# Altium integrated library Xilinx XC5200.IntLib: 211 symbols (part 14 of 19)
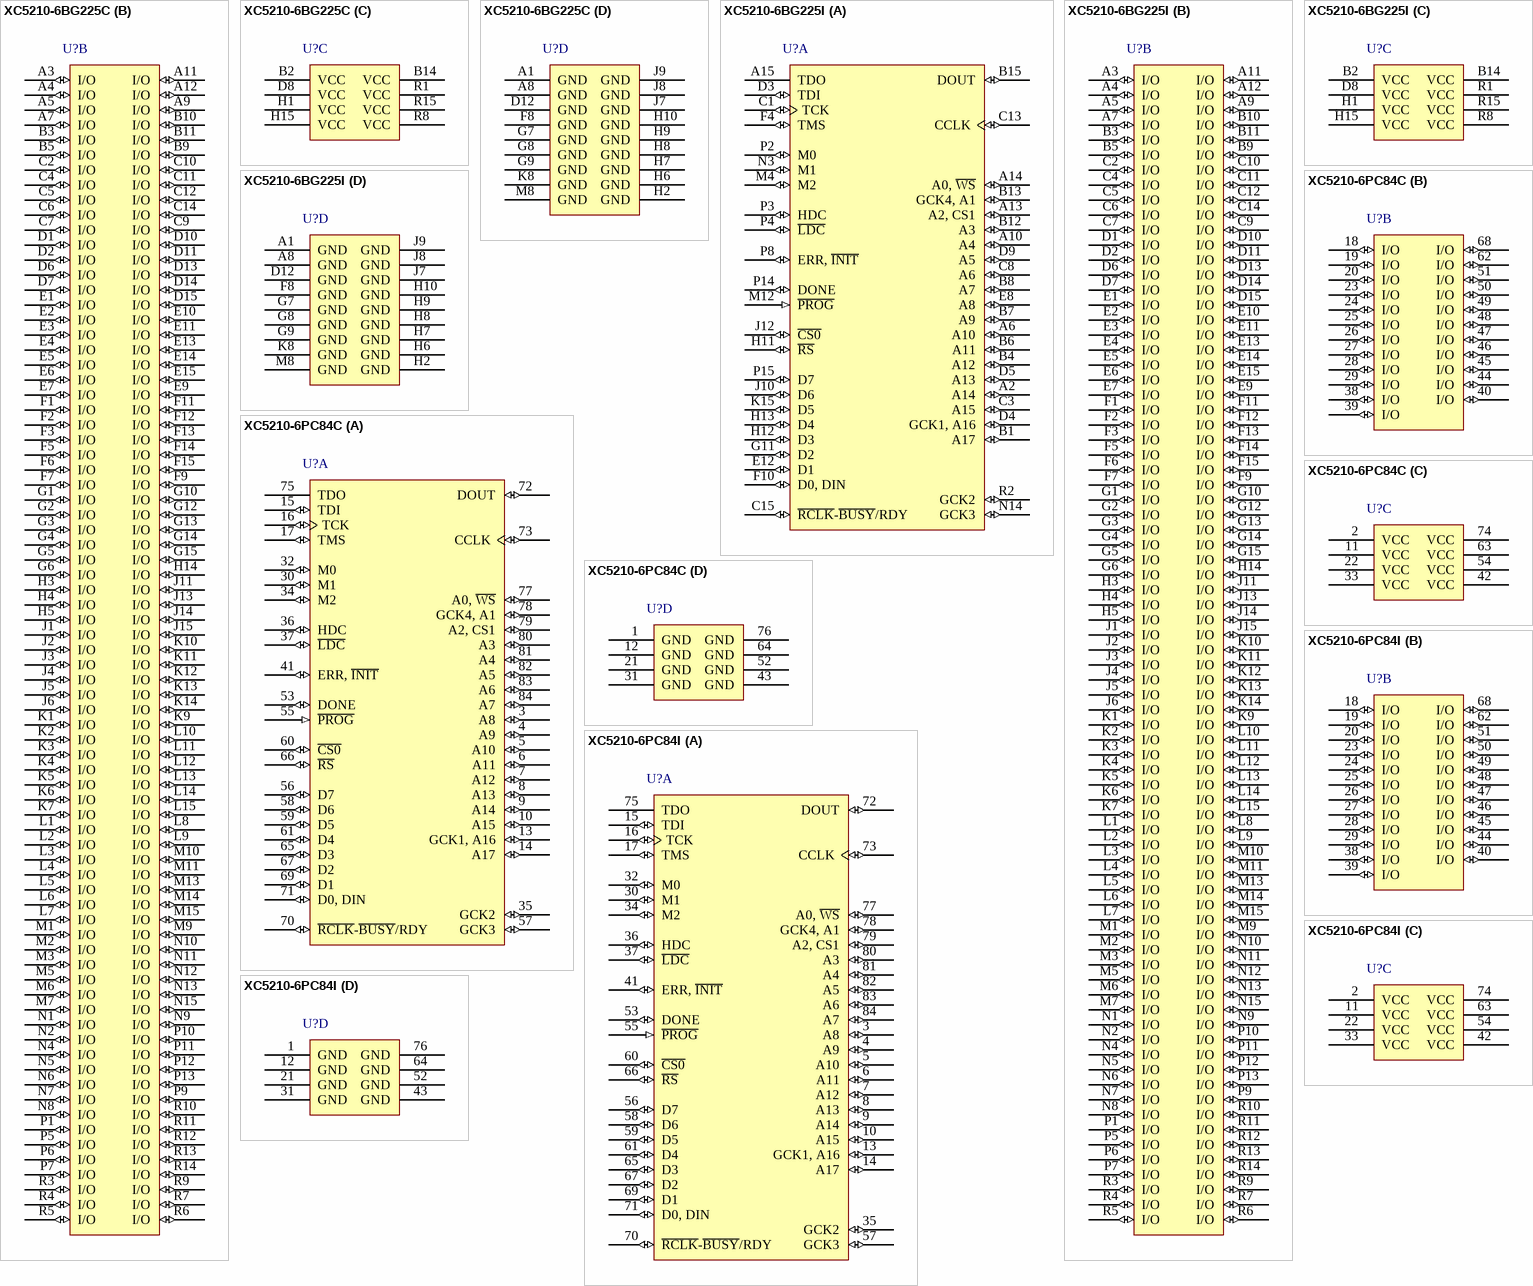
[diagram p76: symbols XC5210-6BG225C to XC5210-6PC84I]

## XC5210-6BG225I
designator U?
XC5200 Series FPGA, 196 User I/Os, 225-Ball BGA, Industrial Grade; Published: 17-Nov-2009; DatasheetVersion: ver5.2, Nov-1998; PackageVersion: ver1.1, Apr-2001; PackageReference: BG225; Publisher: Altium Limited; PackageDescription: 225-Ball Plastic Ball Grid Array (BG225); ComponentLink1Description: XC5200 Datasheet; ComponentLink1URL: http://www.xilinx.com/support/documentation/data_sheets/5200.pdf; ComponentLink2Description: Pinout Specification; ComponentLink2URL: http://www.xilinx.com/support/documentation/data_sheets/5200.pdf; ComponentLink3Description: BG225 Package Drawing; ComponentLink3URL: http://www.xilinx.com/support/documentation/package_specs/bg225.pdf; ComponentLink4Description: XC5200 Documents; ComponentLink4URL: http://www.xilinx.com/support/documentation/xc5200.htm; ComponentLink5Description: Xilinx.com Home; ComponentLink5URL: http://www.xilinx.com
footprint BG225 (BGA, 225-Leads, Body 27x27mm, Pitch 1.5mm)
signal-integrity model XC5210_BG225 (XC5200)
part A pins: A2 A14 (io) "I/O (A14)", A6 A10 (io) "I/O (A10)", A10 A4 (io) "I/O (A4)", A13 A2, CS1 (io) "I/O (CS1, A2)", A14 A0, ~{WS} (io) "I/O (A0, WS)", A15 TDO (hiz) "I/O (TDO)", B1 A17 (io) "I/O (A17)", B4 A12 (io) "I/O (A12)", B6 A11 (io) "I/O (A11)", B7 A9 (io) "I/O (A9)", B8 A7 (io) "I/O (A7)", B12 A3 (io) "I/O (A3)", B13 GCK4, A1 (io) "GCK4 (A1, I/O)", B15 DOUT (io) "I/O (DOUT)", C1 TCK (io) "I/O (TCK)", C3 A15 (io) "I/O (A15)", C8 A6 (io) "I/O (A6)", C13 CCLK (io), C15 ~{RCLK}-~{BUSY}/RDY (io) "I/O (RCLK-BUSY/RDY)", D3 TDI (io) "I/O (TDI)", D4 GCK1, A16 (io) "GCK1 (A16, I/O)", D5 A13 (io) "I/O (A13)", D9 A5 (io) "I/O (A5)", E8 A8 (io) "I/O (A8)", E12 D1 (io) "I/O (D1)", F4 TMS (io) "I/O (TMS)", F10 D0, DIN (io) "I/O (D0, DIN)", G11 D2 (io) "I/O (D2)", H11 ~{RS} (io) "I/O (RS)", H12 D3 (io) "I/O (D3)", H13 D4 (io) "I/O (D4)", J10 D6 (io) "I/O (D6)", J12 ~{CS0} (io) "I/O (CS0)", K15 D5 (io) "I/O (D5)", M4 M2 (io) "M2 (I/O)", M12 ~{PROG} (in), N3 M1 (io) "M1 (I/O)", N14 GCK3 (io) "GCK3 (I/O)", P2 M0 (io) "M0 (I/O)", P3 HDC (io) "I/O (HDC)", P4 ~{LDC} (io) "I/O (LDC)", P8 ERR, ~{INIT} (io) "I/O (ERR, INIT)", P14 DONE (io), P15 D7 (io) "I/O (D7)", R2 GCK2 (io) "GCK2 (I/O)"
part B pins: A3 I/O (io), A4 I/O (io), A5 I/O (io), A7 I/O (io), A9 I/O (io), A11 I/O (io), A12 I/O (io), B3 I/O (io), B5 I/O (io), B9 I/O (io), B10 I/O (io), B11 I/O (io), C2 I/O (io), C4 I/O (io), C5 I/O (io), C6 I/O (io), C7 I/O (io), C9 I/O (io), C10 I/O (io), C11 I/O (io), C12 I/O (io), C14 I/O (io), D1 I/O (io), D2 I/O (io), D6 I/O (io), D7 I/O (io), D10 I/O (io), D11 I/O (io), D13 I/O (io), D14 I/O (io), D15 I/O (io), E1 I/O (io), E2 I/O (io), E3 I/O (io), E4 I/O (io), E5 I/O (io), E6 I/O (io), E7 I/O (io), E9 I/O (io), E10 I/O (io), E11 I/O (io), E13 I/O (io), E14 I/O (io), E15 I/O (io), F1 I/O (io), F2 I/O (io), F3 I/O (io), F5 I/O (io), F6 I/O (io), F7 I/O (io), F9 I/O (io), F11 I/O (io), F12 I/O (io), F13 I/O (io), F14 I/O (io), F15 I/O (io), G1 I/O (io), G2 I/O (io), G3 I/O (io), G4 I/O (io), G5 I/O (io), G6 I/O (io), G10 I/O (io), G12 I/O (io), G13 I/O (io), G14 I/O (io), G15 I/O (io), H3 I/O (io), H4 I/O (io), H5 I/O (io), H14 I/O (io), J1 I/O (io), J2 I/O (io), J3 I/O (io), J4 I/O (io), J5 I/O (io), J6 I/O (io), J11 I/O (io), J13 I/O (io), J14 I/O (io), J15 I/O (io), K1 I/O (io), K2 I/O (io), K3 I/O (io), K4 I/O (io), K5 I/O (io), K6 I/O (io), K7 I/O (io), K9 I/O (io), K10 I/O (io), K11 I/O (io), K12 I/O (io), K13 I/O (io), K14 I/O (io), L1 I/O (io), L2 I/O (io), L3 I/O (io), L4 I/O (io), L5 I/O (io), L6 I/O (io), L7 I/O (io), L8 I/O (io), L9 I/O (io), L10 I/O (io), L11 I/O (io), L12 I/O (io), L13 I/O (io), L14 I/O (io), L15 I/O (io), M1 I/O (io), M2 I/O (io), M3 I/O (io), M5 I/O (io), M6 I/O (io), M7 I/O (io), M9 I/O (io), M10 I/O (io), M11 I/O (io), M13 I/O (io), M14 I/O (io), M15 I/O (io), N1 I/O (io), N2 I/O (io), N4 I/O (io), N5 I/O (io), N6 I/O (io), N7 I/O (io), N8 I/O (io), N9 I/O (io), N10 I/O (io), N11 I/O (io), N12 I/O (io), N13 I/O (io), N15 I/O (io), P1 I/O (io), P5 I/O (io), P6 I/O (io), P7 I/O (io), P9 I/O (io), P10 I/O (io), P11 I/O (io), P12 I/O (io), P13 I/O (io), R3 I/O (io), R4 I/O (io), R5 I/O (io), R6 I/O (io), R7 I/O (io), R9 I/O (io), R10 I/O (io), R11 I/O (io), R12 I/O (io), R13 I/O (io), R14 I/O (io)
part C pins: B2 VCC (power) "Internally bonded to ground plane", B14 VCC (power) "Internally bonded to ground plane", D8 VCC (power) "Internally bonded to ground plane", H1 VCC (power) "Internally bonded to ground plane", H15 VCC (power) "Internally bonded to ground plane", R1 VCC (power) "Internally bonded to ground plane", R8 VCC (power) "Internally bonded to ground plane", R15 VCC (power) "Internally bonded to ground plane"
part D pins: A1 GND (power) "Internally bonded to ground plane", A8 GND (power) "Internally bonded to ground plane", D12 GND (power) "Internally bonded to ground plane", F8 GND (power) "Internally bonded to ground plane", G7 GND (power) "Internally bonded to ground plane", G8 GND (power) "Internally bonded to ground plane", G9 GND (power) "Internally bonded to ground plane", H2 GND (power) "Internally bonded to ground plane", H6 GND (power) "Internally bonded to ground plane", H7 GND (power) "Internally bonded to ground plane", H8 GND (power) "Internally bonded to ground plane", H9 GND (power) "Internally bonded to ground plane", H10 GND (power) "Internally bonded to ground plane", J7 GND (power) "Internally bonded to ground plane", J8 GND (power) "Internally bonded to ground plane", J9 GND (power) "Internally bonded to ground plane", K8 GND (power) "Internally bonded to ground plane", M8 GND (power) "Internally bonded to ground plane"

## XC5210-6PC84C
designator U?
XC5200 Series FPGA, 65 User I/Os, 84-Pin PLCC, Commercial Grade; Published: 17-Nov-2009; DatasheetVersion: ver5.2, Nov-1998; PackageVersion: ver1.2, Jun-2004; PackageReference: PC84; Publisher: Altium Limited; PackageDescription: 84-Pin Plastic Leaded Chip Carrier (PC84); Code_JEDEC: MS-047; Code_IPC: PLCC-84; ComponentLink1Description: XC5200 Datasheet; ComponentLink1URL: http://www.xilinx.com/support/documentation/data_sheets/5200.pdf; ComponentLink2Description: Pinout Specification; ComponentLink2URL: http://www.xilinx.com/support/documentation/data_sheets/5200.pdf; ComponentLink3Description: Discontinuation Notice; ComponentLink3URL: http://www.xilinx.com/support/documentation/customer_notices/xcn09001.pdf; ComponentLink4Description: PC84 Package Drawing; ComponentLink4URL: http://www.xilinx.com/support/documentation/package_specs/pc84.pdf; ComponentLink5Description: XC5200 Documents; ComponentLink5URL: http://www.xilinx.com/support/documentation/xc5200.htm; ComponentLink6Description: Xilinx.com Home; ComponentLink6URL: http://www.xilinx.com
footprint PC84_N (Leaded Chip Carrier, 84-Leads, Body 29.3x29.3mm, Pitch 1.27mm, IPC Medium Density)
footprint PC84_L (Leaded Chip Carrier, 84-Leads, Body 29.3x29.3mm, Pitch 1.27mm, IPC High Density)
footprint PC84_M (Leaded Chip Carrier, 84-Leads, Body 29.3x29.3mm, Pitch 1.27mm, IPC Low Density)
signal-integrity model XC5210_PC84 (XC5200)
part A pins: 3 A8 (io) "I/O (A8)", 4 A9 (io) "I/O (A9)", 5 A10 (io) "I/O (A10)", 6 A11 (io) "I/O (A11)", 7 A12 (io) "I/O (A12)", 8 A13 (io) "I/O (A13)", 9 A14 (io) "I/O (A14)", 10 A15 (io) "I/O (A15)", 13 GCK1, A16 (io) "GCK1 (A16, I/O)", 14 A17 (io) "I/O (A17)", 15 TDI (io) "I/O (TDI)", 16 TCK (io) "I/O (TCK)", 17 TMS (io) "I/O (TMS)", 30 M1 (io) "M1 (I/O)", 32 M0 (io) "M0 (I/O)", 34 M2 (io) "M2 (I/O)", 35 GCK2 (io) "GCK2 (I/O)", 36 HDC (io) "I/O (HDC)", 37 ~{LDC} (io) "I/O (LDC)", 41 ERR, ~{INIT} (io) "I/O (ERR, INIT)", 53 DONE (io), 55 ~{PROG} (in), 56 D7 (io) "I/O (D7)", 57 GCK3 (io) "GCK3 (I/O)", 58 D6 (io) "I/O (D6)", 59 D5 (io) "I/O (D5)", 60 ~{CS0} (io) "I/O (CS0)", 61 D4 (io) "I/O (D4)", 65 D3 (io) "I/O (D3)", 66 ~{RS} (io) "I/O (RS)", 67 D2 (io) "I/O (D2)", 69 D1 (io) "I/O (D1)", 70 ~{RCLK}-~{BUSY}/RDY (io) "I/O (RCLK-BUSY/RDY)", 71 D0, DIN (io) "I/O (D0, DIN)", 72 DOUT (io) "I/O (DOUT)", 73 CCLK (io), 75 TDO (hiz) "I/O (TDO)", 77 A0, ~{WS} (io) "I/O (A0, WS)", 78 GCK4, A1 (io) "GCK4 (A1, I/O)", 79 A2, CS1 (io) "I/O (CS1, A2)", 80 A3 (io) "I/O (A3)", 81 A4 (io) "I/O (A4)", 82 A5 (io) "I/O (A5)", 83 A6 (io) "I/O (A6)", 84 A7 (io) "I/O (A7)"
part B pins: 18 I/O (io), 19 I/O (io), 20 I/O (io), 23 I/O (io), 24 I/O (io), 25 I/O (io), 26 I/O (io), 27 I/O (io), 28 I/O (io), 29 I/O (io), 38 I/O (io), 39 I/O (io), 40 I/O (io), 44 I/O (io), 45 I/O (io), 46 I/O (io), 47 I/O (io), 48 I/O (io), 49 I/O (io), 50 I/O (io), 51 I/O (io), 62 I/O (io), 68 I/O (io)
part C pins: 2 VCC (power), 11 VCC (power), 22 VCC (power), 33 VCC (power), 42 VCC (power), 54 VCC (power), 63 VCC (power), 74 VCC (power)
part D pins: 1 GND (power), 12 GND (power), 21 GND (power), 31 GND (power), 43 GND (power), 52 GND (power), 64 GND (power), 76 GND (power)

## XC5210-6PC84I
designator U?
XC5200 Series FPGA, 65 User I/Os, 84-Pin PLCC, Industrial Grade; Published: 17-Nov-2009; DatasheetVersion: ver5.2, Nov-1998; PackageVersion: ver1.2, Jun-2004; PackageReference: PC84; Publisher: Altium Limited; PackageDescription: 84-Pin Plastic Leaded Chip Carrier (PC84); Code_JEDEC: MS-047; Code_IPC: PLCC-84; ComponentLink1Description: XC5200 Datasheet; ComponentLink1URL: http://www.xilinx.com/support/documentation/data_sheets/5200.pdf; ComponentLink2Description: Pinout Specification; ComponentLink2URL: http://www.xilinx.com/support/documentation/data_sheets/5200.pdf; ComponentLink3Description: Discontinuation Notice; ComponentLink3URL: http://www.xilinx.com/support/documentation/customer_notices/xcn09001.pdf; ComponentLink4Description: PC84 Package Drawing; ComponentLink4URL: http://www.xilinx.com/support/documentation/package_specs/pc84.pdf; ComponentLink5Description: XC5200 Documents; ComponentLink5URL: http://www.xilinx.com/support/documentation/xc5200.htm; ComponentLink6Description: Xilinx.com Home; ComponentLink6URL: http://www.xilinx.com
footprint PC84_N (Leaded Chip Carrier, 84-Leads, Body 29.3x29.3mm, Pitch 1.27mm, IPC Medium Density)
footprint PC84_L (Leaded Chip Carrier, 84-Leads, Body 29.3x29.3mm, Pitch 1.27mm, IPC High Density)
footprint PC84_M (Leaded Chip Carrier, 84-Leads, Body 29.3x29.3mm, Pitch 1.27mm, IPC Low Density)
signal-integrity model XC5210_PC84 (XC5200)
part A pins: 3 A8 (io) "I/O (A8)", 4 A9 (io) "I/O (A9)", 5 A10 (io) "I/O (A10)", 6 A11 (io) "I/O (A11)", 7 A12 (io) "I/O (A12)", 8 A13 (io) "I/O (A13)", 9 A14 (io) "I/O (A14)", 10 A15 (io) "I/O (A15)", 13 GCK1, A16 (io) "GCK1 (A16, I/O)", 14 A17 (io) "I/O (A17)", 15 TDI (io) "I/O (TDI)", 16 TCK (io) "I/O (TCK)", 17 TMS (io) "I/O (TMS)", 30 M1 (io) "M1 (I/O)", 32 M0 (io) "M0 (I/O)", 34 M2 (io) "M2 (I/O)", 35 GCK2 (io) "GCK2 (I/O)", 36 HDC (io) "I/O (HDC)", 37 ~{LDC} (io) "I/O (LDC)", 41 ERR, ~{INIT} (io) "I/O (ERR, INIT)", 53 DONE (io), 55 ~{PROG} (in), 56 D7 (io) "I/O (D7)", 57 GCK3 (io) "GCK3 (I/O)", 58 D6 (io) "I/O (D6)", 59 D5 (io) "I/O (D5)", 60 ~{CS0} (io) "I/O (CS0)", 61 D4 (io) "I/O (D4)", 65 D3 (io) "I/O (D3)", 66 ~{RS} (io) "I/O (RS)", 67 D2 (io) "I/O (D2)", 69 D1 (io) "I/O (D1)", 70 ~{RCLK}-~{BUSY}/RDY (io) "I/O (RCLK-BUSY/RDY)", 71 D0, DIN (io) "I/O (D0, DIN)", 72 DOUT (io) "I/O (DOUT)", 73 CCLK (io), 75 TDO (hiz) "I/O (TDO)", 77 A0, ~{WS} (io) "I/O (A0, WS)", 78 GCK4, A1 (io) "GCK4 (A1, I/O)", 79 A2, CS1 (io) "I/O (CS1, A2)", 80 A3 (io) "I/O (A3)", 81 A4 (io) "I/O (A4)", 82 A5 (io) "I/O (A5)", 83 A6 (io) "I/O (A6)", 84 A7 (io) "I/O (A7)"
part B pins: 18 I/O (io), 19 I/O (io), 20 I/O (io), 23 I/O (io), 24 I/O (io), 25 I/O (io), 26 I/O (io), 27 I/O (io), 28 I/O (io), 29 I/O (io), 38 I/O (io), 39 I/O (io), 40 I/O (io), 44 I/O (io), 45 I/O (io), 46 I/O (io), 47 I/O (io), 48 I/O (io), 49 I/O (io), 50 I/O (io), 51 I/O (io), 62 I/O (io), 68 I/O (io)
part C pins: 2 VCC (power), 11 VCC (power), 22 VCC (power), 33 VCC (power), 42 VCC (power), 54 VCC (power), 63 VCC (power), 74 VCC (power)
part D pins: 1 GND (power), 12 GND (power), 21 GND (power), 31 GND (power), 43 GND (power), 52 GND (power), 64 GND (power), 76 GND (power)

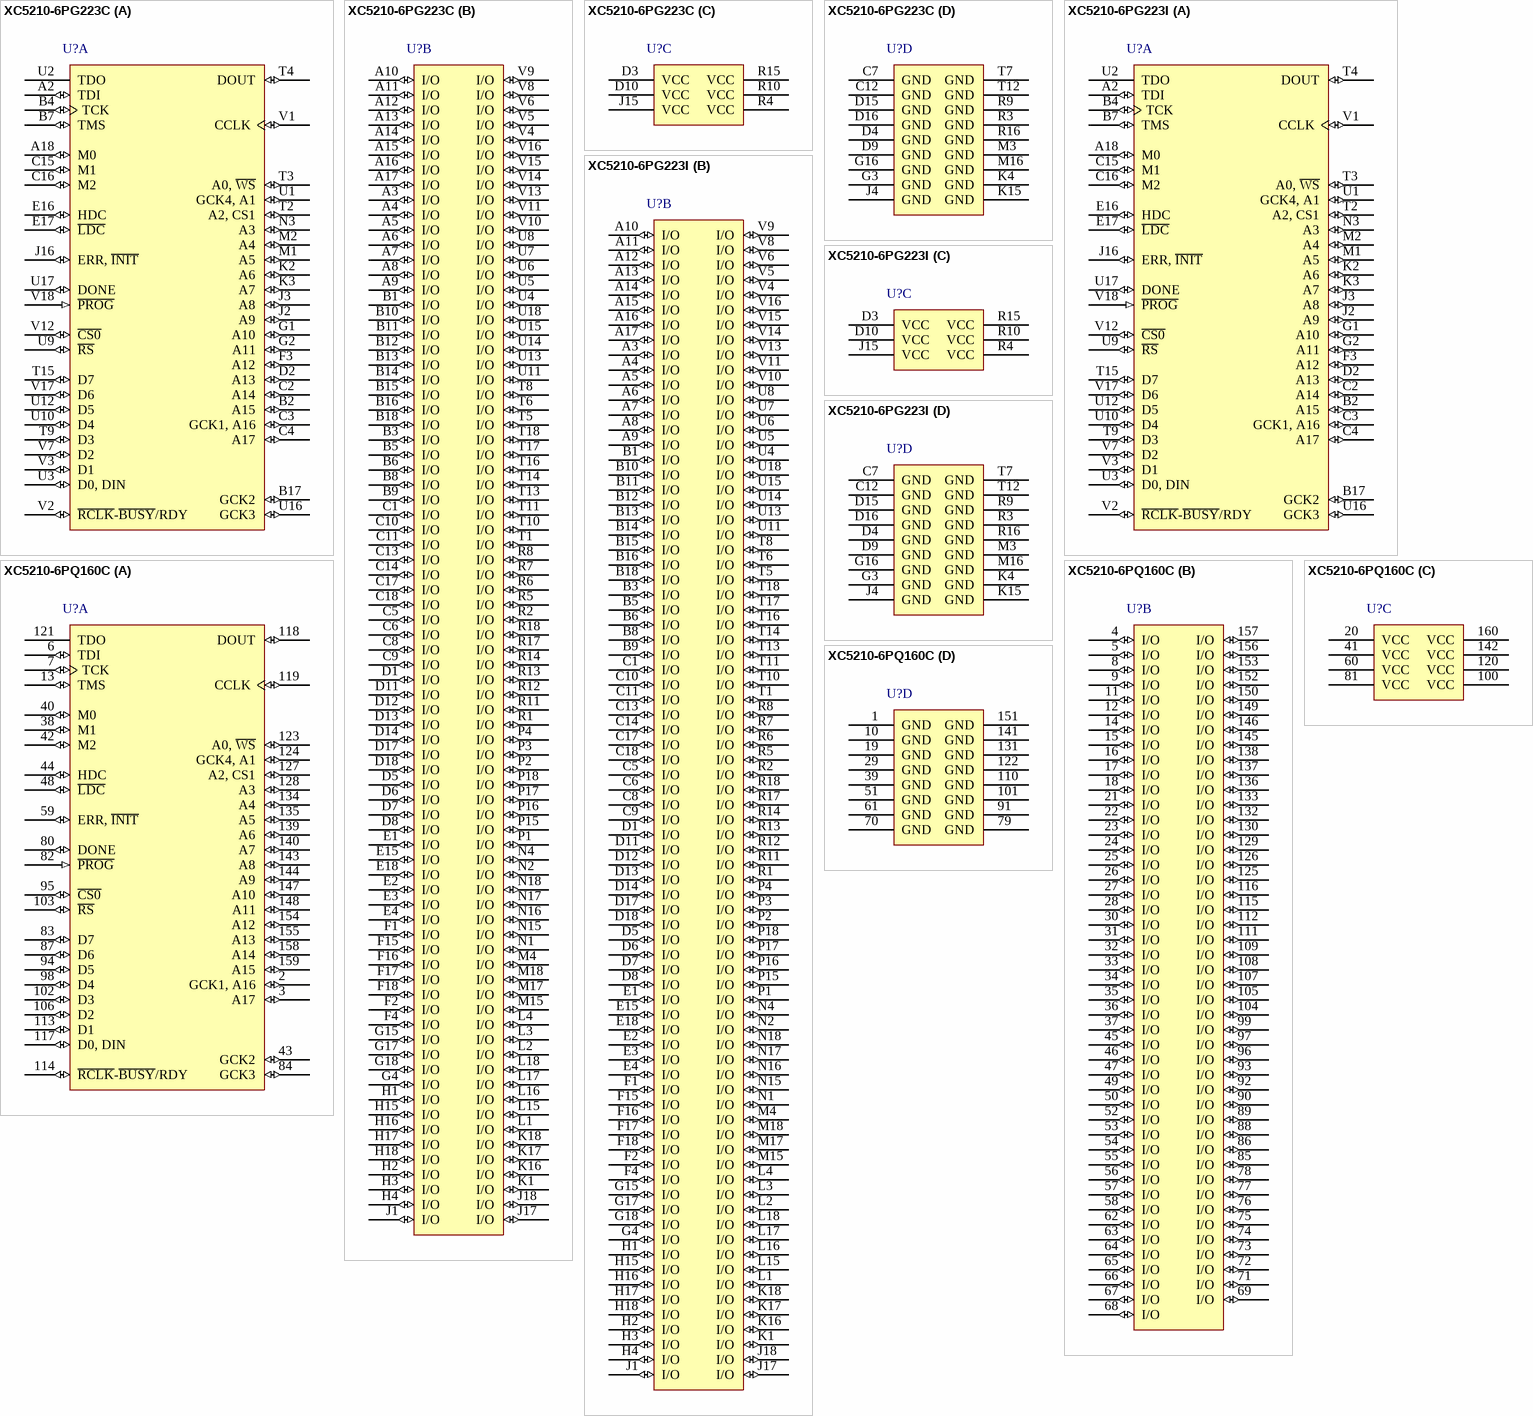
[diagram p44: symbols XC5210-6PG223C to XC5210-6PQ160C]

## XC5210-6PG223C
designator U?
XC5200 Series FPGA, 196 User I/Os, 223-Pin PGA, Commercial Grade; Published: 17-Nov-2009; DatasheetVersion: ver5.2, Nov-1998; PackageVersion: ver1.0, Jun-2000; PackageReference: PG223; Publisher: Altium Limited; PackageDescription: 223-Pin Ceramic Pin Grid Array (PG223); ComponentLink1Description: XC5200 Datasheet; ComponentLink1URL: http://www.xilinx.com/support/documentation/data_sheets/5200.pdf; ComponentLink2Description: Pinout Specification; ComponentLink2URL: http://www.xilinx.com/support/documentation/data_sheets/5200.pdf; ComponentLink3Description: PG223 Package Drawing; ComponentLink3URL: http://www.xilinx.com/support/documentation/package_specs/pg223.pdf; ComponentLink4Description: XC5200 Documents; ComponentLink4URL: http://www.xilinx.com/support/documentation/xc5200.htm; ComponentLink5Description: Xilinx.com Home; ComponentLink5URL: http://www.xilinx.com
footprint PG223 (PGA, 223-Leads, Body 47x47mm, Pitch 2.54mm)
signal-integrity model XC5210_PG223 (XC5200)
part A pins: A2 TDI (io) "I/O (TDI)", A18 M0 (io) "M0 (I/O)", B2 A15 (io) "I/O (A15)", B4 TCK (io) "I/O (TCK)", B7 TMS (io) "I/O (TMS)", B17 GCK2 (io) "GCK2 (I/O)", C2 A14 (io) "I/O (A14)", C3 GCK1, A16 (io) "GCK1 (A16, I/O)", C4 A17 (io) "I/O (A17)", C15 M1 (io) "M1 (I/O)", C16 M2 (io) "M2 (I/O)", D2 A13 (io) "I/O (A13)", E16 HDC (io) "I/O (HDC)", E17 ~{LDC} (io) "I/O (LDC)", F3 A12 (io) "I/O (A12)", G1 A10 (io) "I/O (A10)", G2 A11 (io) "I/O (A11)", J2 A9 (io) "I/O (A9)", J3 A8 (io) "I/O (A8)", J16 ERR, ~{INIT} (io) "I/O (ERR, INIT)", K2 A6 (io) "I/O (A6)", K3 A7 (io) "I/O (A7)", M1 A5 (io) "I/O (A5)", M2 A4 (io) "I/O (A4)", N3 A3 (io) "I/O (A3)", T2 A2, CS1 (io) "I/O (CS1, A2)", T3 A0, ~{WS} (io) "I/O (A0, WS)", T4 DOUT (io) "I/O (DOUT)", T9 D3 (io) "I/O (D3)", T15 D7 (io) "I/O (D7)", U1 GCK4, A1 (io) "GCK4 (A1, I/O)", U2 TDO (hiz) "I/O (TDO)", U3 D0, DIN (io) "I/O (D0, DIN)", U9 ~{RS} (io) "I/O (RS)", U10 D4 (io) "I/O (D4)", U12 D5 (io) "I/O (D5)", U16 GCK3 (io) "GCK3 (I/O)", U17 DONE (io), V1 CCLK (io), V2 ~{RCLK}-~{BUSY}/RDY (io) "I/O (RCLK-BUSY/RDY)", V3 D1 (io) "I/O (D1)", V7 D2 (io) "I/O (D2)", V12 ~{CS0} (io) "I/O (CS0)", V17 D6 (io) "I/O (D6)", V18 ~{PROG} (in)
part B pins: A3 I/O (io), A4 I/O (io), A5 I/O (io), A6 I/O (io), A7 I/O (io), A8 I/O (io), A9 I/O (io), A10 I/O (io), A11 I/O (io), A12 I/O (io), A13 I/O (io), A14 I/O (io), A15 I/O (io), A16 I/O (io), A17 I/O (io), B1 I/O (io), B3 I/O (io), B5 I/O (io), B6 I/O (io), B8 I/O (io), B9 I/O (io), B10 I/O (io), B11 I/O (io), B12 I/O (io), B13 I/O (io), B14 I/O (io), B15 I/O (io), B16 I/O (io), B18 I/O (io), C1 I/O (io), C5 I/O (io), C6 I/O (io), C8 I/O (io), C9 I/O (io), C10 I/O (io), C11 I/O (io), C13 I/O (io), C14 I/O (io), C17 I/O (io), C18 I/O (io), D1 I/O (io), D5 I/O (io), D6 I/O (io), D7 I/O (io), D8 I/O (io), D11 I/O (io), D12 I/O (io), D13 I/O (io), D14 I/O (io), D17 I/O (io), D18 I/O (io), E1 I/O (io), E2 I/O (io), E3 I/O (io), E4 I/O (io), E15 I/O (io), E18 I/O (io), F1 I/O (io), F2 I/O (io), F4 I/O (io), F15 I/O (io), F16 I/O (io), F17 I/O (io), F18 I/O (io), G4 I/O (io), G15 I/O (io), G17 I/O (io), G18 I/O (io), H1 I/O (io), H2 I/O (io), H3 I/O (io), H4 I/O (io), H15 I/O (io), H16 I/O (io), H17 I/O (io), H18 I/O (io), J1 I/O (io), J17 I/O (io), J18 I/O (io), K1 I/O (io), K16 I/O (io), K17 I/O (io), K18 I/O (io), L1 I/O (io), L2 I/O (io), L3 I/O (io), L4 I/O (io), L15 I/O (io), L16 I/O (io), L17 I/O (io), L18 I/O (io), M4 I/O (io), M15 I/O (io), M17 I/O (io), M18 I/O (io), N1 I/O (io), N2 I/O (io), N4 I/O (io), N15 I/O (io), N16 I/O (io), N17 I/O (io), N18 I/O (io), P1 I/O (io), P2 I/O (io), P3 I/O (io), P4 I/O (io), P15 I/O (io), P16 I/O (io), P17 I/O (io), P18 I/O (io), R1 I/O (io), R2 I/O (io), R5 I/O (io), R6 I/O (io), R7 I/O (io), R8 I/O (io), R11 I/O (io), R12 I/O (io), R13 I/O (io), R14 I/O (io), R17 I/O (io), R18 I/O (io), T1 I/O (io), T5 I/O (io), T6 I/O (io), T8 I/O (io), T10 I/O (io), T11 I/O (io), T13 I/O (io), T14 I/O (io), T16 I/O (io), T17 I/O (io), T18 I/O (io), U4 I/O (io), U5 I/O (io), U6 I/O (io), U7 I/O (io), U8 I/O (io), U11 I/O (io), U13 I/O (io), U14 I/O (io), U15 I/O (io), U18 I/O (io), V4 I/O (io), V5 I/O (io), V6 I/O (io), V8 I/O (io), V9 I/O (io), V10 I/O (io), V11 I/O (io), V13 I/O (io), V14 I/O (io), V15 I/O (io), V16 I/O (io)
part C pins: D3 VCC (power) "Internally bonded to ground plane", D10 VCC (power) "Internally bonded to ground plane", J15 VCC (power) "Internally bonded to ground plane", R4 VCC (power) "Internally bonded to ground plane", R10 VCC (power) "Internally bonded to ground plane", R15 VCC (power) "Internally bonded to ground plane"
part D pins: C7 GND (power) "Internally bonded to ground plane", C12 GND (power) "Internally bonded to ground plane", D4 GND (power) "Internally bonded to ground plane", D9 GND (power) "Internally bonded to ground plane", D15 GND (power) "Internally bonded to ground plane", D16 GND (power) "Internally bonded to ground plane", G3 GND (power) "Internally bonded to ground plane", G16 GND (power) "Internally bonded to ground plane", J4 GND (power) "Internally bonded to ground plane", K4 GND (power) "Internally bonded to ground plane", K15 GND (power) "Internally bonded to ground plane", M3 GND (power), M16 GND (power) "Internally bonded to ground plane", R3 GND (power) "Internally bonded to ground plane", R9 GND (power) "Internally bonded to ground plane", R16 GND (power) "Internally bonded to ground plane", T7 GND (power) "Internally bonded to ground plane", T12 GND (power) "Internally bonded to ground plane"

## XC5210-6PG223I
designator U?
XC5200 Series FPGA, 196 User I/Os, 223-Pin PGA, Industrial Grade; Published: 17-Nov-2009; DatasheetVersion: ver5.2, Nov-1998; PackageVersion: ver1.0, Jun-2000; PackageReference: PG223; Publisher: Altium Limited; PackageDescription: 223-Pin Ceramic Pin Grid Array (PG223); ComponentLink1Description: XC5200 Datasheet; ComponentLink1URL: http://www.xilinx.com/support/documentation/data_sheets/5200.pdf; ComponentLink2Description: Pinout Specification; ComponentLink2URL: http://www.xilinx.com/support/documentation/data_sheets/5200.pdf; ComponentLink3Description: PG223 Package Drawing; ComponentLink3URL: http://www.xilinx.com/support/documentation/package_specs/pg223.pdf; ComponentLink4Description: XC5200 Documents; ComponentLink4URL: http://www.xilinx.com/support/documentation/xc5200.htm; ComponentLink5Description: Xilinx.com Home; ComponentLink5URL: http://www.xilinx.com
footprint PG223 (PGA, 223-Leads, Body 47x47mm, Pitch 2.54mm)
signal-integrity model XC5210_PG223 (XC5200)
part A pins: A2 TDI (io) "I/O (TDI)", A18 M0 (io) "M0 (I/O)", B2 A15 (io) "I/O (A15)", B4 TCK (io) "I/O (TCK)", B7 TMS (io) "I/O (TMS)", B17 GCK2 (io) "GCK2 (I/O)", C2 A14 (io) "I/O (A14)", C3 GCK1, A16 (io) "GCK1 (A16, I/O)", C4 A17 (io) "I/O (A17)", C15 M1 (io) "M1 (I/O)", C16 M2 (io) "M2 (I/O)", D2 A13 (io) "I/O (A13)", E16 HDC (io) "I/O (HDC)", E17 ~{LDC} (io) "I/O (LDC)", F3 A12 (io) "I/O (A12)", G1 A10 (io) "I/O (A10)", G2 A11 (io) "I/O (A11)", J2 A9 (io) "I/O (A9)", J3 A8 (io) "I/O (A8)", J16 ERR, ~{INIT} (io) "I/O (ERR, INIT)", K2 A6 (io) "I/O (A6)", K3 A7 (io) "I/O (A7)", M1 A5 (io) "I/O (A5)", M2 A4 (io) "I/O (A4)", N3 A3 (io) "I/O (A3)", T2 A2, CS1 (io) "I/O (CS1, A2)", T3 A0, ~{WS} (io) "I/O (A0, WS)", T4 DOUT (io) "I/O (DOUT)", T9 D3 (io) "I/O (D3)", T15 D7 (io) "I/O (D7)", U1 GCK4, A1 (io) "GCK4 (A1, I/O)", U2 TDO (hiz) "I/O (TDO)", U3 D0, DIN (io) "I/O (D0, DIN)", U9 ~{RS} (io) "I/O (RS)", U10 D4 (io) "I/O (D4)", U12 D5 (io) "I/O (D5)", U16 GCK3 (io) "GCK3 (I/O)", U17 DONE (io), V1 CCLK (io), V2 ~{RCLK}-~{BUSY}/RDY (io) "I/O (RCLK-BUSY/RDY)", V3 D1 (io) "I/O (D1)", V7 D2 (io) "I/O (D2)", V12 ~{CS0} (io) "I/O (CS0)", V17 D6 (io) "I/O (D6)", V18 ~{PROG} (in)
part B pins: A3 I/O (io), A4 I/O (io), A5 I/O (io), A6 I/O (io), A7 I/O (io), A8 I/O (io), A9 I/O (io), A10 I/O (io), A11 I/O (io), A12 I/O (io), A13 I/O (io), A14 I/O (io), A15 I/O (io), A16 I/O (io), A17 I/O (io), B1 I/O (io), B3 I/O (io), B5 I/O (io), B6 I/O (io), B8 I/O (io), B9 I/O (io), B10 I/O (io), B11 I/O (io), B12 I/O (io), B13 I/O (io), B14 I/O (io), B15 I/O (io), B16 I/O (io), B18 I/O (io), C1 I/O (io), C5 I/O (io), C6 I/O (io), C8 I/O (io), C9 I/O (io), C10 I/O (io), C11 I/O (io), C13 I/O (io), C14 I/O (io), C17 I/O (io), C18 I/O (io), D1 I/O (io), D5 I/O (io), D6 I/O (io), D7 I/O (io), D8 I/O (io), D11 I/O (io), D12 I/O (io), D13 I/O (io), D14 I/O (io), D17 I/O (io), D18 I/O (io), E1 I/O (io), E2 I/O (io), E3 I/O (io), E4 I/O (io), E15 I/O (io), E18 I/O (io), F1 I/O (io), F2 I/O (io), F4 I/O (io), F15 I/O (io), F16 I/O (io), F17 I/O (io), F18 I/O (io), G4 I/O (io), G15 I/O (io), G17 I/O (io), G18 I/O (io), H1 I/O (io), H2 I/O (io), H3 I/O (io), H4 I/O (io), H15 I/O (io), H16 I/O (io), H17 I/O (io), H18 I/O (io), J1 I/O (io), J17 I/O (io), J18 I/O (io), K1 I/O (io), K16 I/O (io), K17 I/O (io), K18 I/O (io), L1 I/O (io), L2 I/O (io), L3 I/O (io), L4 I/O (io), L15 I/O (io), L16 I/O (io), L17 I/O (io), L18 I/O (io), M4 I/O (io), M15 I/O (io), M17 I/O (io), M18 I/O (io), N1 I/O (io), N2 I/O (io), N4 I/O (io), N15 I/O (io), N16 I/O (io), N17 I/O (io), N18 I/O (io), P1 I/O (io), P2 I/O (io), P3 I/O (io), P4 I/O (io), P15 I/O (io), P16 I/O (io), P17 I/O (io), P18 I/O (io), R1 I/O (io), R2 I/O (io), R5 I/O (io), R6 I/O (io), R7 I/O (io), R8 I/O (io), R11 I/O (io), R12 I/O (io), R13 I/O (io), R14 I/O (io), R17 I/O (io), R18 I/O (io), T1 I/O (io), T5 I/O (io), T6 I/O (io), T8 I/O (io), T10 I/O (io), T11 I/O (io), T13 I/O (io), T14 I/O (io), T16 I/O (io), T17 I/O (io), T18 I/O (io), U4 I/O (io), U5 I/O (io), U6 I/O (io), U7 I/O (io), U8 I/O (io), U11 I/O (io), U13 I/O (io), U14 I/O (io), U15 I/O (io), U18 I/O (io), V4 I/O (io), V5 I/O (io), V6 I/O (io), V8 I/O (io), V9 I/O (io), V10 I/O (io), V11 I/O (io), V13 I/O (io), V14 I/O (io), V15 I/O (io), V16 I/O (io)
part C pins: D3 VCC (power) "Internally bonded to ground plane", D10 VCC (power) "Internally bonded to ground plane", J15 VCC (power) "Internally bonded to ground plane", R4 VCC (power) "Internally bonded to ground plane", R10 VCC (power) "Internally bonded to ground plane", R15 VCC (power) "Internally bonded to ground plane"
part D pins: C7 GND (power) "Internally bonded to ground plane", C12 GND (power) "Internally bonded to ground plane", D4 GND (power) "Internally bonded to ground plane", D9 GND (power) "Internally bonded to ground plane", D15 GND (power) "Internally bonded to ground plane", D16 GND (power) "Internally bonded to ground plane", G3 GND (power) "Internally bonded to ground plane", G16 GND (power) "Internally bonded to ground plane", J4 GND (power) "Internally bonded to ground plane", K4 GND (power) "Internally bonded to ground plane", K15 GND (power) "Internally bonded to ground plane", M3 GND (power), M16 GND (power) "Internally bonded to ground plane", R3 GND (power) "Internally bonded to ground plane", R9 GND (power) "Internally bonded to ground plane", R16 GND (power) "Internally bonded to ground plane", T7 GND (power) "Internally bonded to ground plane", T12 GND (power) "Internally bonded to ground plane"

## XC5210-6PQ160C
designator U?
XC5200 Series FPGA, 133 User I/Os, 160-Pin PQFP, Commercial Grade; Published: 17-Nov-2009; DatasheetVersion: ver5.2, Nov-1998; PackageVersion: ver1.2, Jun-2004; PackageReference: PQ160; Publisher: Altium Limited; PackageDescription: 160-Pin Plastic Quad Flat Pack (PQ160); Supplier 1: Digi-Key; Supplier Part Number 1: 122-1147-ND; Code_JEDEC: MS-022-DD1; Code_IPC: QFP65P3120X3120-160; ComponentLink1Description: XC5200 Datasheet; ComponentLink1URL: http://www.xilinx.com/support/documentation/data_sheets/5200.pdf; ComponentLink2Description: Pinout Specification; ComponentLink2URL: http://www.xilinx.com/support/documentation/data_sheets/5200.pdf; ComponentLink3Description: Discontinuation Notice; ComponentLink3URL: http://www.xilinx.com/support/documentation/customer_notices/xcn09001.pdf; ComponentLink4Description: PQ160 Package Drawing; ComponentLink4URL: http://www.xilinx.com/support/documentation/package_specs/pq160.pdf; ComponentLink5Description: XC5200 Documents; ComponentLink5URL: http://www.xilinx.com/support/documentation/xc5200.htm; ComponentLink6Description: Xilinx.com Home; ComponentLink6URL: http://www.xilinx.com
footprint PQ160_N (QFP, 160-Leads, Body 28x28mm, Pitch 0.65mm, IPC Medium Density)
footprint PQ160_L (QFP, 160-Leads, Body 28x28mm, Pitch 0.65mm, IPC High Density)
footprint PQ160_M (QFP, 160-Leads, Body 28x28mm, Pitch 0.65mm, IPC Low Density)
signal-integrity model XC5210_PQ160 (XC5200)
part A pins: 2 GCK1, A16 (io) "GCK1 (A16, I/O)", 3 A17 (io) "I/O (A17)", 6 TDI (io) "I/O (TDI)", 7 TCK (io) "I/O (TCK)", 13 TMS (io) "I/O (TMS)", 38 M1 (io) "M1 (I/O)", 40 M0 (io) "M0 (I/O)", 42 M2 (io) "M2 (I/O)", 43 GCK2 (io) "GCK2 (I/O)", 44 HDC (io) "I/O (HDC)", 48 ~{LDC} (io) "I/O (LDC)", 59 ERR, ~{INIT} (io) "I/O (ERR, INIT)", 80 DONE (io), 82 ~{PROG} (in), 83 D7 (io) "I/O (D7)", 84 GCK3 (io) "GCK3 (I/O)", 87 D6 (io) "I/O (D6)", 94 D5 (io) "I/O (D5)", 95 ~{CS0} (io) "I/O (CS0)", 98 D4 (io) "I/O (D4)", 102 D3 (io) "I/O (D3)", 103 ~{RS} (io) "I/O (RS)", 106 D2 (io) "I/O (D2)", 113 D1 (io) "I/O (D1)", 114 ~{RCLK}-~{BUSY}/RDY (io) "I/O (RCLK-BUSY/RDY)", 117 D0, DIN (io) "I/O (D0, DIN)", 118 DOUT (io) "I/O (DOUT)", 119 CCLK (io), 121 TDO (hiz) "I/O (TDO)", 123 A0, ~{WS} (io) "I/O (A0, WS)", 124 GCK4, A1 (io) "GCK4 (A1, I/O)", 127 A2, CS1 (io) "I/O (CS1, A2)", 128 A3 (io) "I/O (A3)", 134 A4 (io) "I/O (A4)", 135 A5 (io) "I/O (A5)", 139 A6 (io) "I/O (A6)", 140 A7 (io) "I/O (A7)", 143 A8 (io) "I/O (A8)", 144 A9 (io) "I/O (A9)", 147 A10 (io) "I/O (A10)", 148 A11 (io) "I/O (A11)", 154 A12 (io) "I/O (A12)", 155 A13 (io) "I/O (A13)", 158 A14 (io) "I/O (A14)", 159 A15 (io) "I/O (A15)"
part B pins: 4 I/O (io), 5 I/O (io), 8 I/O (io), 9 I/O (io), 11 I/O (io), 12 I/O (io), 14 I/O (io), 15 I/O (io), 16 I/O (io), 17 I/O (io), 18 I/O (io), 21 I/O (io), 22 I/O (io), 23 I/O (io), 24 I/O (io), 25 I/O (io), 26 I/O (io), 27 I/O (io), 28 I/O (io), 30 I/O (io), 31 I/O (io), 32 I/O (io), 33 I/O (io), 34 I/O (io), 35 I/O (io), 36 I/O (io), 37 I/O (io), 45 I/O (io), 46 I/O (io), 47 I/O (io), 49 I/O (io), 50 I/O (io), 52 I/O (io), 53 I/O (io), 54 I/O (io), 55 I/O (io), 56 I/O (io), 57 I/O (io), 58 I/O (io), 62 I/O (io), 63 I/O (io), 64 I/O (io), 65 I/O (io), 66 I/O (io), 67 I/O (io), 68 I/O (io), 69 I/O (io), 71 I/O (io), 72 I/O (io), 73 I/O (io), 74 I/O (io), 75 I/O (io), 76 I/O (io), 77 I/O (io), 78 I/O (io), 85 I/O (io), 86 I/O (io), 88 I/O (io), 89 I/O (io), 90 I/O (io), 92 I/O (io), 93 I/O (io), 96 I/O (io), 97 I/O (io), 99 I/O (io), 104 I/O (io), 105 I/O (io), 107 I/O (io), 108 I/O (io), 109 I/O (io), 111 I/O (io), 112 I/O (io), 115 I/O (io), 116 I/O (io), 125 I/O (io), 126 I/O (io), 129 I/O (io), 130 I/O (io), 132 I/O (io), 133 I/O (io), 136 I/O (io), 137 I/O (io), 138 I/O (io), 145 I/O (io), 146 I/O (io), 149 I/O (io), 150 I/O (io), 152 I/O (io), 153 I/O (io), 156 I/O (io), 157 I/O (io)
part C pins: 20 VCC (power), 41 VCC (power), 60 VCC (power), 81 VCC (power), 100 VCC (power), 120 VCC (power), 142 VCC (power), 160 VCC (power)
part D pins: 1 GND (power), 10 GND (power), 19 GND (power), 29 GND (power), 39 GND (power), 51 GND (power), 61 GND (power), 70 GND (power), 79 GND (power), 91 GND (power), 101 GND (power), 110 GND (power), 122 GND (power), 131 GND (power), 141 GND (power), 151 GND (power)

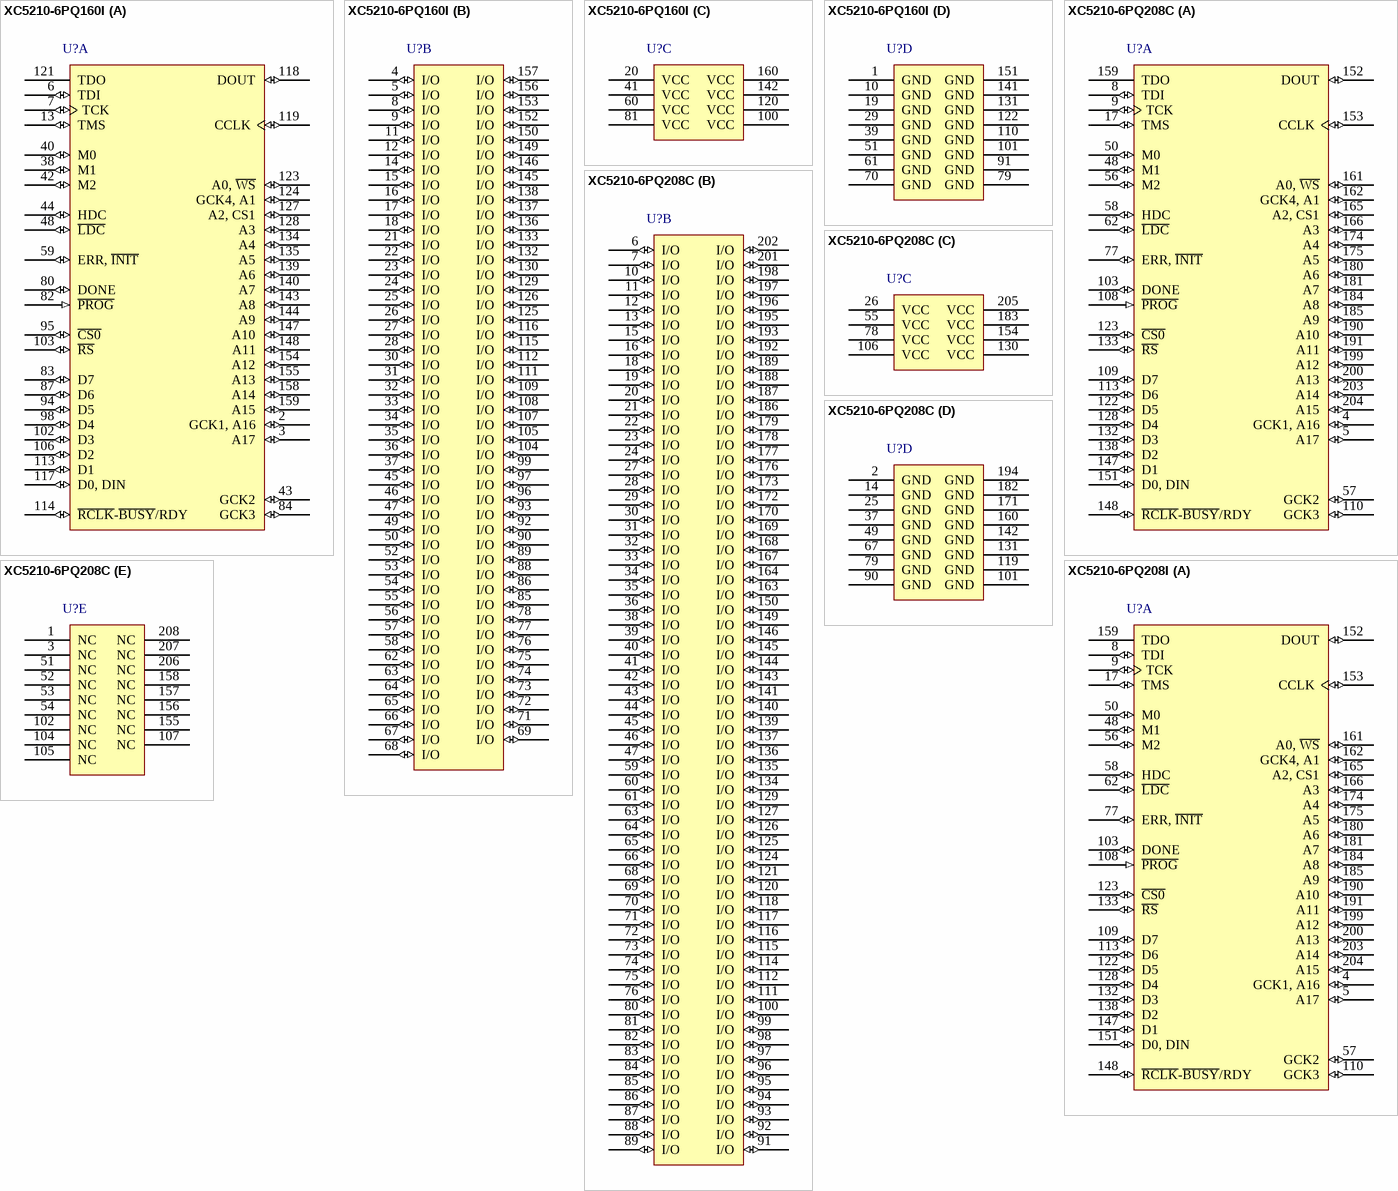
[diagram p45: symbols XC5210-6PQ160I to XC5210-6PQ208I]

## XC5210-6PQ160I
designator U?
XC5200 Series FPGA, 133 User I/Os, 160-Pin PQFP, Industrial Grade; Published: 17-Nov-2009; DatasheetVersion: ver5.2, Nov-1998; PackageVersion: ver1.2, Jun-2004; PackageReference: PQ160; Publisher: Altium Limited; PackageDescription: 160-Pin Plastic Quad Flat Pack (PQ160); Code_JEDEC: MS-022-DD1; Code_IPC: QFP65P3120X3120-160; ComponentLink1Description: XC5200 Datasheet; ComponentLink1URL: http://www.xilinx.com/support/documentation/data_sheets/5200.pdf; ComponentLink2Description: Pinout Specification; ComponentLink2URL: http://www.xilinx.com/support/documentation/data_sheets/5200.pdf; ComponentLink3Description: Discontinuation Notice; ComponentLink3URL: http://www.xilinx.com/support/documentation/customer_notices/xcn09001.pdf; ComponentLink4Description: PQ160 Package Drawing; ComponentLink4URL: http://www.xilinx.com/support/documentation/package_specs/pq160.pdf; ComponentLink5Description: XC5200 Documents; ComponentLink5URL: http://www.xilinx.com/support/documentation/xc5200.htm; ComponentLink6Description: Xilinx.com Home; ComponentLink6URL: http://www.xilinx.com
footprint PQ160_N (QFP, 160-Leads, Body 28x28mm, Pitch 0.65mm, IPC Medium Density)
footprint PQ160_L (QFP, 160-Leads, Body 28x28mm, Pitch 0.65mm, IPC High Density)
footprint PQ160_M (QFP, 160-Leads, Body 28x28mm, Pitch 0.65mm, IPC Low Density)
signal-integrity model XC5210_PQ160 (XC5200)
part A pins: 2 GCK1, A16 (io) "GCK1 (A16, I/O)", 3 A17 (io) "I/O (A17)", 6 TDI (io) "I/O (TDI)", 7 TCK (io) "I/O (TCK)", 13 TMS (io) "I/O (TMS)", 38 M1 (io) "M1 (I/O)", 40 M0 (io) "M0 (I/O)", 42 M2 (io) "M2 (I/O)", 43 GCK2 (io) "GCK2 (I/O)", 44 HDC (io) "I/O (HDC)", 48 ~{LDC} (io) "I/O (LDC)", 59 ERR, ~{INIT} (io) "I/O (ERR, INIT)", 80 DONE (io), 82 ~{PROG} (in), 83 D7 (io) "I/O (D7)", 84 GCK3 (io) "GCK3 (I/O)", 87 D6 (io) "I/O (D6)", 94 D5 (io) "I/O (D5)", 95 ~{CS0} (io) "I/O (CS0)", 98 D4 (io) "I/O (D4)", 102 D3 (io) "I/O (D3)", 103 ~{RS} (io) "I/O (RS)", 106 D2 (io) "I/O (D2)", 113 D1 (io) "I/O (D1)", 114 ~{RCLK}-~{BUSY}/RDY (io) "I/O (RCLK-BUSY/RDY)", 117 D0, DIN (io) "I/O (D0, DIN)", 118 DOUT (io) "I/O (DOUT)", 119 CCLK (io), 121 TDO (hiz) "I/O (TDO)", 123 A0, ~{WS} (io) "I/O (A0, WS)", 124 GCK4, A1 (io) "GCK4 (A1, I/O)", 127 A2, CS1 (io) "I/O (CS1, A2)", 128 A3 (io) "I/O (A3)", 134 A4 (io) "I/O (A4)", 135 A5 (io) "I/O (A5)", 139 A6 (io) "I/O (A6)", 140 A7 (io) "I/O (A7)", 143 A8 (io) "I/O (A8)", 144 A9 (io) "I/O (A9)", 147 A10 (io) "I/O (A10)", 148 A11 (io) "I/O (A11)", 154 A12 (io) "I/O (A12)", 155 A13 (io) "I/O (A13)", 158 A14 (io) "I/O (A14)", 159 A15 (io) "I/O (A15)"
part B pins: 4 I/O (io), 5 I/O (io), 8 I/O (io), 9 I/O (io), 11 I/O (io), 12 I/O (io), 14 I/O (io), 15 I/O (io), 16 I/O (io), 17 I/O (io), 18 I/O (io), 21 I/O (io), 22 I/O (io), 23 I/O (io), 24 I/O (io), 25 I/O (io), 26 I/O (io), 27 I/O (io), 28 I/O (io), 30 I/O (io), 31 I/O (io), 32 I/O (io), 33 I/O (io), 34 I/O (io), 35 I/O (io), 36 I/O (io), 37 I/O (io), 45 I/O (io), 46 I/O (io), 47 I/O (io), 49 I/O (io), 50 I/O (io), 52 I/O (io), 53 I/O (io), 54 I/O (io), 55 I/O (io), 56 I/O (io), 57 I/O (io), 58 I/O (io), 62 I/O (io), 63 I/O (io), 64 I/O (io), 65 I/O (io), 66 I/O (io), 67 I/O (io), 68 I/O (io), 69 I/O (io), 71 I/O (io), 72 I/O (io), 73 I/O (io), 74 I/O (io), 75 I/O (io), 76 I/O (io), 77 I/O (io), 78 I/O (io), 85 I/O (io), 86 I/O (io), 88 I/O (io), 89 I/O (io), 90 I/O (io), 92 I/O (io), 93 I/O (io), 96 I/O (io), 97 I/O (io), 99 I/O (io), 104 I/O (io), 105 I/O (io), 107 I/O (io), 108 I/O (io), 109 I/O (io), 111 I/O (io), 112 I/O (io), 115 I/O (io), 116 I/O (io), 125 I/O (io), 126 I/O (io), 129 I/O (io), 130 I/O (io), 132 I/O (io), 133 I/O (io), 136 I/O (io), 137 I/O (io), 138 I/O (io), 145 I/O (io), 146 I/O (io), 149 I/O (io), 150 I/O (io), 152 I/O (io), 153 I/O (io), 156 I/O (io), 157 I/O (io)
part C pins: 20 VCC (power), 41 VCC (power), 60 VCC (power), 81 VCC (power), 100 VCC (power), 120 VCC (power), 142 VCC (power), 160 VCC (power)
part D pins: 1 GND (power), 10 GND (power), 19 GND (power), 29 GND (power), 39 GND (power), 51 GND (power), 61 GND (power), 70 GND (power), 79 GND (power), 91 GND (power), 101 GND (power), 110 GND (power), 122 GND (power), 131 GND (power), 141 GND (power), 151 GND (power)

## XC5210-6PQ208C
designator U?
XC5200 Series FPGA, 164 User I/Os, 208-Pin PQFP, Commercial Grade; Published: 17-Nov-2009; DatasheetVersion: ver5.2, Nov-1998; PackageVersion: ver1.2, Jun-2004; PackageReference: PQ208; Publisher: Altium Limited; PackageDescription: 208-Pin Plastic Quad Flat Pack (PQ208); Supplier 1: Digi-Key; Supplier Part Number 1: 122-1149-ND; Code_JEDEC: MS-029-FA-1; ComponentLink1Description: XC5200 Datasheet; ComponentLink1URL: http://www.xilinx.com/support/documentation/data_sheets/5200.pdf; ComponentLink2Description: Pinout Specification; ComponentLink2URL: http://www.xilinx.com/support/documentation/data_sheets/5200.pdf; ComponentLink3Description: Discontinuation Notice; ComponentLink3URL: http://www.xilinx.com/support/documentation/customer_notices/xcn09001.pdf; ComponentLink4Description: PQ208 Package Drawing; ComponentLink4URL: http://www.xilinx.com/support/documentation/package_specs/pq208.pdf; ComponentLink5Description: XC5200 Documents; ComponentLink5URL: http://www.xilinx.com/support/documentation/xc5200.htm; ComponentLink6Description: Xilinx.com Home; ComponentLink6URL: http://www.xilinx.com
footprint PQ208_N (Shrink QFP, 208-Leads, Body 28x28mm, Pitch 0.5mm, IPC Medium Density)
footprint PQ208_L (Shrink QFP, 208-Leads, Body 28x28mm, Pitch 0.5mm, IPC High Density)
footprint PQ208_M (Shrink QFP, 208-Leads, Body 28x28mm, Pitch 0.5mm, IPC Low Density)
signal-integrity model XC5210_PQ208 (XC5200)
part A pins: 4 GCK1, A16 (io) "GCK1 (A16, I/O)", 5 A17 (io) "I/O (A17)", 8 TDI (io) "I/O (TDI)", 9 TCK (io) "I/O (TCK)", 17 TMS (io) "I/O (TMS)", 48 M1 (io) "M1 (I/O)", 50 M0 (io) "M0 (I/O)", 56 M2 (io) "M2 (I/O)", 57 GCK2 (io) "GCK2 (I/O)", 58 HDC (io) "I/O (HDC)", 62 ~{LDC} (io) "I/O (LDC)", 77 ERR, ~{INIT} (io) "I/O (ERR, INIT)", 103 DONE (io), 108 ~{PROG} (in), 109 D7 (io) "I/O (D7)", 110 GCK3 (io) "GCK3 (I/O)", 113 D6 (io) "I/O (D6)", 122 D5 (io) "I/O (D5)", 123 ~{CS0} (io) "I/O (CS0)", 128 D4 (io) "I/O (D4)", 132 D3 (io) "I/O (D3)", 133 ~{RS} (io) "I/O (RS)", 138 D2 (io) "I/O (D2)", 147 D1 (io) "I/O (D1)", 148 ~{RCLK}-~{BUSY}/RDY (io) "I/O (RCLK-BUSY/RDY)", 151 D0, DIN (io) "I/O (D0, DIN)", 152 DOUT (io) "I/O (DOUT)", 153 CCLK (io), 159 TDO (hiz) "I/O (TDO)", 161 A0, ~{WS} (io) "I/O (A0, WS)", 162 GCK4, A1 (io) "GCK4 (A1, I/O)", 165 A2, CS1 (io) "I/O (CS1, A2)", 166 A3 (io) "I/O (A3)", 174 A4 (io) "I/O (A4)", 175 A5 (io) "I/O (A5)", 180 A6 (io) "I/O (A6)", 181 A7 (io) "I/O (A7)", 184 A8 (io) "I/O (A8)", 185 A9 (io) "I/O (A9)", 190 A10 (io) "I/O (A10)", 191 A11 (io) "I/O (A11)", 199 A12 (io) "I/O (A12)", 200 A13 (io) "I/O (A13)", 203 A14 (io) "I/O (A14)", 204 A15 (io) "I/O (A15)"
part B pins: 6 I/O (io), 7 I/O (io), 10 I/O (io), 11 I/O (io), 12 I/O (io), 13 I/O (io), 15 I/O (io), 16 I/O (io), 18 I/O (io), 19 I/O (io), 20 I/O (io), 21 I/O (io), 22 I/O (io), 23 I/O (io), 24 I/O (io), 27 I/O (io), 28 I/O (io), 29 I/O (io), 30 I/O (io), 31 I/O (io), 32 I/O (io), 33 I/O (io), 34 I/O (io), 35 I/O (io), 36 I/O (io), 38 I/O (io), 39 I/O (io), 40 I/O (io), 41 I/O (io), 42 I/O (io), 43 I/O (io), 44 I/O (io), 45 I/O (io), 46 I/O (io), 47 I/O (io), 59 I/O (io), 60 I/O (io), 61 I/O (io), 63 I/O (io), 64 I/O (io), 65 I/O (io), 66 I/O (io), 68 I/O (io), 69 I/O (io), 70 I/O (io), 71 I/O (io), 72 I/O (io), 73 I/O (io), 74 I/O (io), 75 I/O (io), 76 I/O (io), 80 I/O (io), 81 I/O (io), 82 I/O (io), 83 I/O (io), 84 I/O (io), 85 I/O (io), 86 I/O (io), 87 I/O (io), 88 I/O (io), 89 I/O (io), 91 I/O (io), 92 I/O (io), 93 I/O (io), 94 I/O (io), 95 I/O (io), 96 I/O (io), 97 I/O (io), 98 I/O (io), 99 I/O (io), 100 I/O (io), 111 I/O (io), 112 I/O (io), 114 I/O (io), 115 I/O (io), 116 I/O (io), 117 I/O (io), 118 I/O (io), 120 I/O (io), 121 I/O (io), 124 I/O (io), 125 I/O (io), 126 I/O (io), 127 I/O (io), 129 I/O (io), 134 I/O (io), 135 I/O (io), 136 I/O (io), 137 I/O (io), 139 I/O (io), 140 I/O (io), 141 I/O (io), 143 I/O (io), 144 I/O (io), 145 I/O (io), 146 I/O (io), 149 I/O (io), 150 I/O (io), 163 I/O (io), 164 I/O (io), 167 I/O (io), 168 I/O (io), 169 I/O (io), 170 I/O (io), 172 I/O (io), 173 I/O (io), 176 I/O (io), 177 I/O (io), 178 I/O (io), 179 I/O (io), 186 I/O (io), 187 I/O (io), 188 I/O (io), 189 I/O (io), 192 I/O (io), 193 I/O (io), 195 I/O (io), 196 I/O (io), 197 I/O (io), 198 I/O (io), 201 I/O (io), 202 I/O (io)
part C pins: 26 VCC (power), 55 VCC (power), 78 VCC (power), 106 VCC (power), 130 VCC (power), 154 VCC (power), 183 VCC (power), 205 VCC (power)
part D pins: 2 GND (power), 14 GND (power), 25 GND (power), 37 GND (power), 49 GND (power), 67 GND (power), 79 GND (power), 90 GND (power), 101 GND (power), 119 GND (power), 131 GND (power), 142 GND (power), 160 GND (power), 171 GND (power), 182 GND (power), 194 GND (power)
part E pins: 1 NC, 3 NC, 51 NC, 52 NC, 53 NC, 54 NC, 102 NC, 104 NC, 105 NC, 107 NC, 155 NC, 156 NC, 157 NC, 158 NC, 206 NC, 207 NC, 208 NC

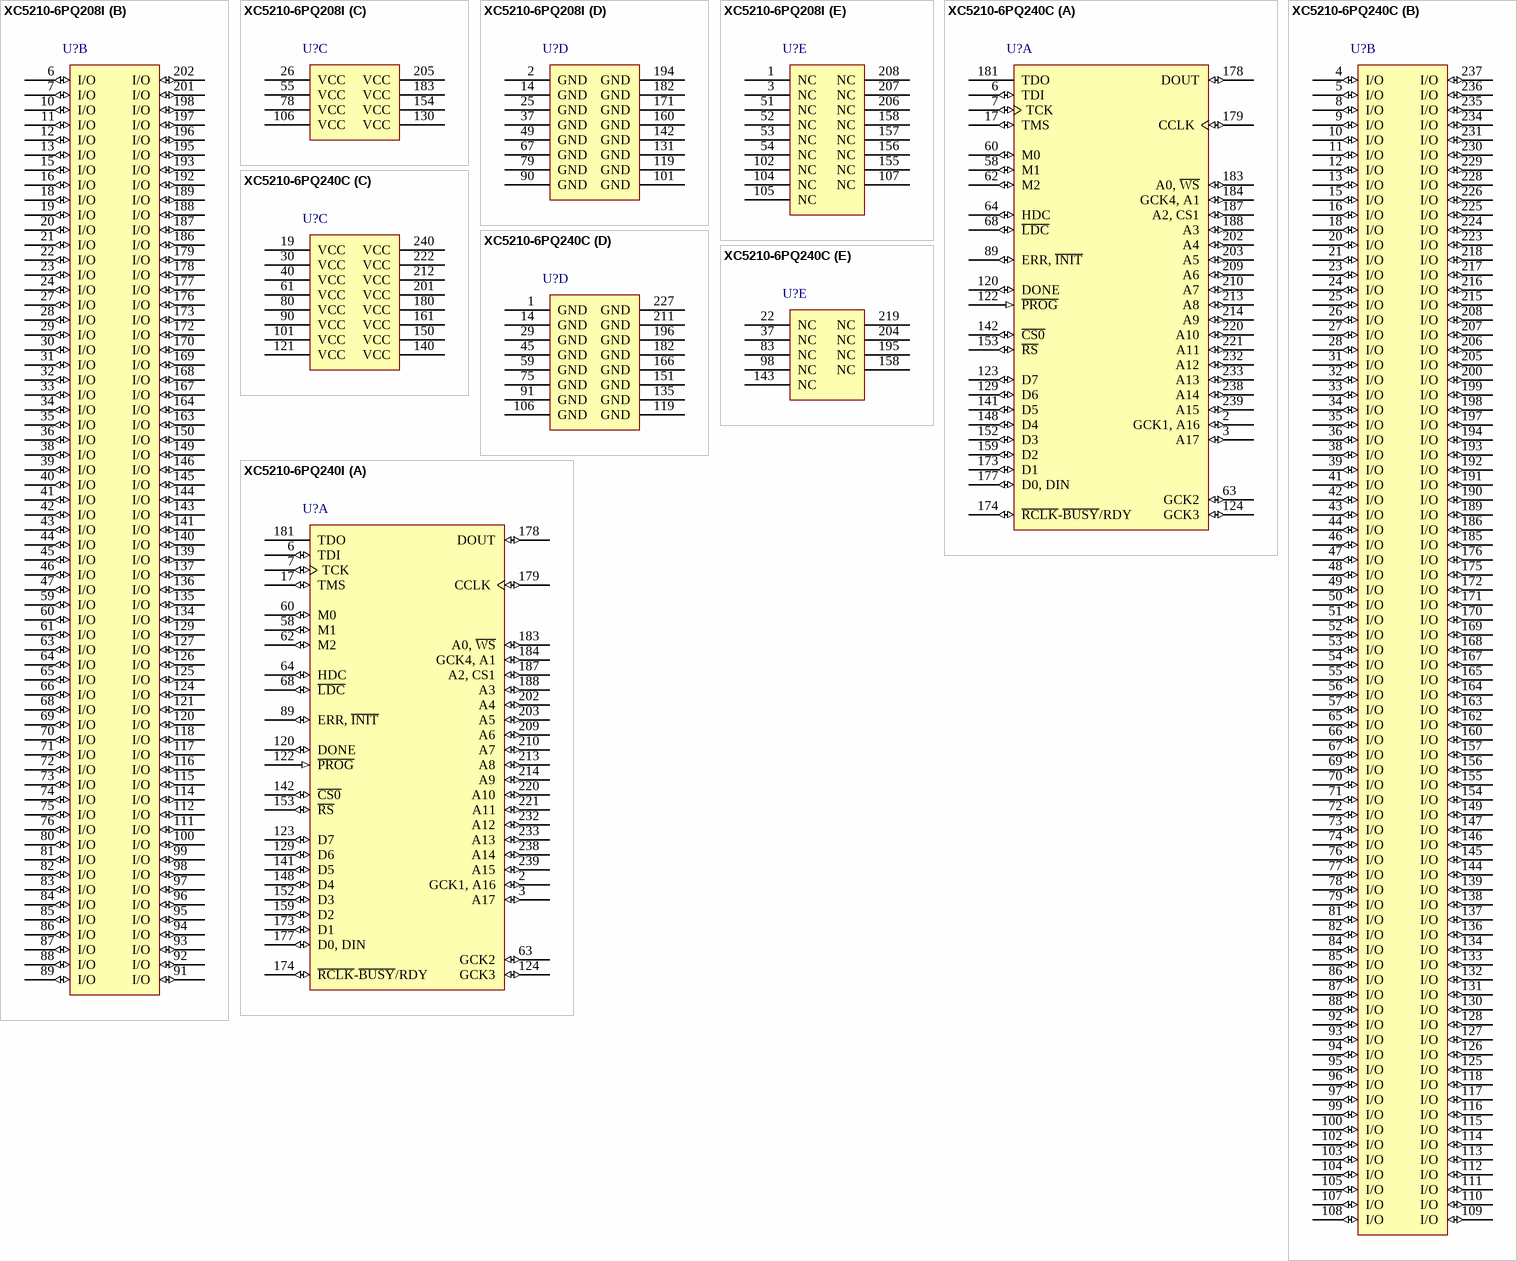
[diagram p46: symbols XC5210-6PQ208I to XC5210-6PQ240I]

## XC5210-6PQ208I
designator U?
XC5200 Series FPGA, 164 User I/Os, 208-Pin PQFP, Industrial Grade; Published: 17-Nov-2009; DatasheetVersion: ver5.2, Nov-1998; PackageVersion: ver1.2, Jun-2004; PackageReference: PQ208; Publisher: Altium Limited; PackageDescription: 208-Pin Plastic Quad Flat Pack (PQ208); Code_JEDEC: MS-029-FA-1; ComponentLink1Description: XC5200 Datasheet; ComponentLink1URL: http://www.xilinx.com/support/documentation/data_sheets/5200.pdf; ComponentLink2Description: Pinout Specification; ComponentLink2URL: http://www.xilinx.com/support/documentation/data_sheets/5200.pdf; ComponentLink3Description: Discontinuation Notice; ComponentLink3URL: http://www.xilinx.com/support/documentation/customer_notices/xcn09001.pdf; ComponentLink4Description: PQ208 Package Drawing; ComponentLink4URL: http://www.xilinx.com/support/documentation/package_specs/pq208.pdf; ComponentLink5Description: XC5200 Documents; ComponentLink5URL: http://www.xilinx.com/support/documentation/xc5200.htm; ComponentLink6Description: Xilinx.com Home; ComponentLink6URL: http://www.xilinx.com
footprint PQ208_N (Shrink QFP, 208-Leads, Body 28x28mm, Pitch 0.5mm, IPC Medium Density)
footprint PQ208_L (Shrink QFP, 208-Leads, Body 28x28mm, Pitch 0.5mm, IPC High Density)
footprint PQ208_M (Shrink QFP, 208-Leads, Body 28x28mm, Pitch 0.5mm, IPC Low Density)
signal-integrity model XC5210_PQ208 (XC5200)
part A pins: 4 GCK1, A16 (io) "GCK1 (A16, I/O)", 5 A17 (io) "I/O (A17)", 8 TDI (io) "I/O (TDI)", 9 TCK (io) "I/O (TCK)", 17 TMS (io) "I/O (TMS)", 48 M1 (io) "M1 (I/O)", 50 M0 (io) "M0 (I/O)", 56 M2 (io) "M2 (I/O)", 57 GCK2 (io) "GCK2 (I/O)", 58 HDC (io) "I/O (HDC)", 62 ~{LDC} (io) "I/O (LDC)", 77 ERR, ~{INIT} (io) "I/O (ERR, INIT)", 103 DONE (io), 108 ~{PROG} (in), 109 D7 (io) "I/O (D7)", 110 GCK3 (io) "GCK3 (I/O)", 113 D6 (io) "I/O (D6)", 122 D5 (io) "I/O (D5)", 123 ~{CS0} (io) "I/O (CS0)", 128 D4 (io) "I/O (D4)", 132 D3 (io) "I/O (D3)", 133 ~{RS} (io) "I/O (RS)", 138 D2 (io) "I/O (D2)", 147 D1 (io) "I/O (D1)", 148 ~{RCLK}-~{BUSY}/RDY (io) "I/O (RCLK-BUSY/RDY)", 151 D0, DIN (io) "I/O (D0, DIN)", 152 DOUT (io) "I/O (DOUT)", 153 CCLK (io), 159 TDO (hiz) "I/O (TDO)", 161 A0, ~{WS} (io) "I/O (A0, WS)", 162 GCK4, A1 (io) "GCK4 (A1, I/O)", 165 A2, CS1 (io) "I/O (CS1, A2)", 166 A3 (io) "I/O (A3)", 174 A4 (io) "I/O (A4)", 175 A5 (io) "I/O (A5)", 180 A6 (io) "I/O (A6)", 181 A7 (io) "I/O (A7)", 184 A8 (io) "I/O (A8)", 185 A9 (io) "I/O (A9)", 190 A10 (io) "I/O (A10)", 191 A11 (io) "I/O (A11)", 199 A12 (io) "I/O (A12)", 200 A13 (io) "I/O (A13)", 203 A14 (io) "I/O (A14)", 204 A15 (io) "I/O (A15)"
part B pins: 6 I/O (io), 7 I/O (io), 10 I/O (io), 11 I/O (io), 12 I/O (io), 13 I/O (io), 15 I/O (io), 16 I/O (io), 18 I/O (io), 19 I/O (io), 20 I/O (io), 21 I/O (io), 22 I/O (io), 23 I/O (io), 24 I/O (io), 27 I/O (io), 28 I/O (io), 29 I/O (io), 30 I/O (io), 31 I/O (io), 32 I/O (io), 33 I/O (io), 34 I/O (io), 35 I/O (io), 36 I/O (io), 38 I/O (io), 39 I/O (io), 40 I/O (io), 41 I/O (io), 42 I/O (io), 43 I/O (io), 44 I/O (io), 45 I/O (io), 46 I/O (io), 47 I/O (io), 59 I/O (io), 60 I/O (io), 61 I/O (io), 63 I/O (io), 64 I/O (io), 65 I/O (io), 66 I/O (io), 68 I/O (io), 69 I/O (io), 70 I/O (io), 71 I/O (io), 72 I/O (io), 73 I/O (io), 74 I/O (io), 75 I/O (io), 76 I/O (io), 80 I/O (io), 81 I/O (io), 82 I/O (io), 83 I/O (io), 84 I/O (io), 85 I/O (io), 86 I/O (io), 87 I/O (io), 88 I/O (io), 89 I/O (io), 91 I/O (io), 92 I/O (io), 93 I/O (io), 94 I/O (io), 95 I/O (io), 96 I/O (io), 97 I/O (io), 98 I/O (io), 99 I/O (io), 100 I/O (io), 111 I/O (io), 112 I/O (io), 114 I/O (io), 115 I/O (io), 116 I/O (io), 117 I/O (io), 118 I/O (io), 120 I/O (io), 121 I/O (io), 124 I/O (io), 125 I/O (io), 126 I/O (io), 127 I/O (io), 129 I/O (io), 134 I/O (io), 135 I/O (io), 136 I/O (io), 137 I/O (io), 139 I/O (io), 140 I/O (io), 141 I/O (io), 143 I/O (io), 144 I/O (io), 145 I/O (io), 146 I/O (io), 149 I/O (io), 150 I/O (io), 163 I/O (io), 164 I/O (io), 167 I/O (io), 168 I/O (io), 169 I/O (io), 170 I/O (io), 172 I/O (io), 173 I/O (io), 176 I/O (io), 177 I/O (io), 178 I/O (io), 179 I/O (io), 186 I/O (io), 187 I/O (io), 188 I/O (io), 189 I/O (io), 192 I/O (io), 193 I/O (io), 195 I/O (io), 196 I/O (io), 197 I/O (io), 198 I/O (io), 201 I/O (io), 202 I/O (io)
part C pins: 26 VCC (power), 55 VCC (power), 78 VCC (power), 106 VCC (power), 130 VCC (power), 154 VCC (power), 183 VCC (power), 205 VCC (power)
part D pins: 2 GND (power), 14 GND (power), 25 GND (power), 37 GND (power), 49 GND (power), 67 GND (power), 79 GND (power), 90 GND (power), 101 GND (power), 119 GND (power), 131 GND (power), 142 GND (power), 160 GND (power), 171 GND (power), 182 GND (power), 194 GND (power)
part E pins: 1 NC, 3 NC, 51 NC, 52 NC, 53 NC, 54 NC, 102 NC, 104 NC, 105 NC, 107 NC, 155 NC, 156 NC, 157 NC, 158 NC, 206 NC, 207 NC, 208 NC

## XC5210-6PQ240C
designator U?
XC5200 Series FPGA, 196 User I/Os, 240-Pin PQFP, Commercial Grade; Published: 17-Nov-2009; DatasheetVersion: ver5.2, Nov-1998; PackageVersion: ver1.2, Jun-2004; PackageReference: PQ240; Publisher: Altium Limited; PackageDescription: 240-Pin Plastic Quad Flat Pack (PQ240); Supplier 1: Digi-Key; Supplier Part Number 1: 122-1151-ND; Code_JEDEC: MO-143-GA; ComponentLink1Description: XC5200 Datasheet; ComponentLink1URL: http://www.xilinx.com/support/documentation/data_sheets/5200.pdf; ComponentLink2Description: Pinout Specification; ComponentLink2URL: http://www.xilinx.com/support/documentation/data_sheets/5200.pdf; ComponentLink3Description: Discontinuation Notice; ComponentLink3URL: http://www.xilinx.com/support/documentation/customer_notices/xcn09001.pdf; ComponentLink4Description: PQ240 Package Drawing; ComponentLink4URL: http://www.xilinx.com/support/documentation/package_specs/pq240.pdf; ComponentLink5Description: XC5200 Documents; ComponentLink5URL: http://www.xilinx.com/support/documentation/xc5200.htm; ComponentLink6Description: Xilinx.com Home; ComponentLink6URL: http://www.xilinx.com
footprint PQ240_N (Shrink QFP, 240-Leads, Body 32x32mm, Pitch 0.5mm, IPC Medium Density)
footprint PQ240_L (Shrink QFP, 240-Leads, Body 32x32mm, Pitch 0.5mm, IPC High Density)
footprint PQ240_M (Shrink QFP, 240-Leads, Body 32x32mm, Pitch 0.5mm, IPC Low Density)
signal-integrity model XC5210_PQ240 (XC5200)
part A pins: 2 GCK1, A16 (io) "GCK1 (A16, I/O)", 3 A17 (io) "I/O (A17)", 6 TDI (io) "I/O (TDI)", 7 TCK (io) "I/O (TCK)", 17 TMS (io) "I/O (TMS)", 58 M1 (io) "M1 (I/O)", 60 M0 (io) "M0 (I/O)", 62 M2 (io) "M2 (I/O)", 63 GCK2 (io) "GCK2 (I/O)", 64 HDC (io) "I/O (HDC)", 68 ~{LDC} (io) "I/O (LDC)", 89 ERR, ~{INIT} (io) "I/O (ERR, INIT)", 120 DONE (io), 122 ~{PROG} (in), 123 D7 (io) "I/O (D7)", 124 GCK3 (io) "GCK3 (I/O)", 129 D6 (io) "I/O (D6)", 141 D5 (io) "I/O (D5)", 142 ~{CS0} (io) "I/O (CS0)", 148 D4 (io) "I/O (D4)", 152 D3 (io) "I/O (D3)", 153 ~{RS} (io) "I/O (RS)", 159 D2 (io) "I/O (D2)", 173 D1 (io) "I/O (D1)", 174 ~{RCLK}-~{BUSY}/RDY (io) "I/O (RCLK-BUSY/RDY)", 177 D0, DIN (io) "I/O (D0, DIN)", 178 DOUT (io) "I/O (DOUT)", 179 CCLK (io), 181 TDO (hiz) "I/O (TDO)", 183 A0, ~{WS} (io) "I/O (A0, WS)", 184 GCK4, A1 (io) "GCK4 (A1, I/O)", 187 A2, CS1 (io) "I/O (CS1, A2)", 188 A3 (io) "I/O (A3)", 202 A4 (io) "I/O (A4)", 203 A5 (io) "I/O (A5)", 209 A6 (io) "I/O (A6)", 210 A7 (io) "I/O (A7)", 213 A8 (io) "I/O (A8)", 214 A9 (io) "I/O (A9)", 220 A10 (io) "I/O (A10)", 221 A11 (io) "I/O (A11)", 232 A12 (io) "I/O (A12)", 233 A13 (io) "I/O (A13)", 238 A14 (io) "I/O (A14)", 239 A15 (io) "I/O (A15)"
part B pins: 4 I/O (io), 5 I/O (io), 8 I/O (io), 9 I/O (io), 10 I/O (io), 11 I/O (io), 12 I/O (io), 13 I/O (io), 15 I/O (io), 16 I/O (io), 18 I/O (io), 20 I/O (io), 21 I/O (io), 23 I/O (io), 24 I/O (io), 25 I/O (io), 26 I/O (io), 27 I/O (io), 28 I/O (io), 31 I/O (io), 32 I/O (io), 33 I/O (io), 34 I/O (io), 35 I/O (io), 36 I/O (io), 38 I/O (io), 39 I/O (io), 41 I/O (io), 42 I/O (io), 43 I/O (io), 44 I/O (io), 46 I/O (io), 47 I/O (io), 48 I/O (io), 49 I/O (io), 50 I/O (io), 51 I/O (io), 52 I/O (io), 53 I/O (io), 54 I/O (io), 55 I/O (io), 56 I/O (io), 57 I/O (io), 65 I/O (io), 66 I/O (io), 67 I/O (io), 69 I/O (io), 70 I/O (io), 71 I/O (io), 72 I/O (io), 73 I/O (io), 74 I/O (io), 76 I/O (io), 77 I/O (io), 78 I/O (io), 79 I/O (io), 81 I/O (io), 82 I/O (io), 84 I/O (io), 85 I/O (io), 86 I/O (io), 87 I/O (io), 88 I/O (io), 92 I/O (io), 93 I/O (io), 94 I/O (io), 95 I/O (io), 96 I/O (io), 97 I/O (io), 99 I/O (io), 100 I/O (io), 102 I/O (io), 103 I/O (io), 104 I/O (io), 105 I/O (io), 107 I/O (io), 108 I/O (io), 109 I/O (io), 110 I/O (io), 111 I/O (io), 112 I/O (io), 113 I/O (io), 114 I/O (io), 115 I/O (io), 116 I/O (io), 117 I/O (io), 118 I/O (io), 125 I/O (io), 126 I/O (io), 127 I/O (io), 128 I/O (io), 130 I/O (io), 131 I/O (io), 132 I/O (io), 133 I/O (io), 134 I/O (io), 136 I/O (io), 137 I/O (io), 138 I/O (io), 139 I/O (io), 144 I/O (io), 145 I/O (io), 146 I/O (io), 147 I/O (io), 149 I/O (io), 154 I/O (io), 155 I/O (io), 156 I/O (io), 157 I/O (io), 160 I/O (io), 162 I/O (io), 163 I/O (io), 164 I/O (io), 165 I/O (io), 167 I/O (io), 168 I/O (io), 169 I/O (io), 170 I/O (io), 171 I/O (io), 172 I/O (io), 175 I/O (io), 176 I/O (io), 185 I/O (io), 186 I/O (io), 189 I/O (io), 190 I/O (io), 191 I/O (io), 192 I/O (io), 193 I/O (io), 194 I/O (io), 197 I/O (io), 198 I/O (io), 199 I/O (io), 200 I/O (io), 205 I/O (io), 206 I/O (io), 207 I/O (io), 208 I/O (io), 215 I/O (io), 216 I/O (io), 217 I/O (io), 218 I/O (io), 223 I/O (io), 224 I/O (io), 225 I/O (io), 226 I/O (io), 228 I/O (io), 229 I/O (io), 230 I/O (io), 231 I/O (io), 234 I/O (io), 235 I/O (io), 236 I/O (io), 237 I/O (io)
part C pins: 19 VCC (power), 30 VCC (power), 40 VCC (power), 61 VCC (power), 80 VCC (power), 90 VCC (power), 101 VCC (power), 121 VCC (power), 140 VCC (power), 150 VCC (power), 161 VCC (power), 180 VCC (power), 201 VCC (power), 212 VCC (power), 222 VCC (power), 240 VCC (power)
part D pins: 1 GND (power), 14 GND (power), 29 GND (power), 45 GND (power), 59 GND (power), 75 GND (power), 91 GND (power), 106 GND (power), 119 GND (power), 135 GND (power), 151 GND (power), 166 GND (power), 182 GND (power), 196 GND (power), 211 GND (power), 227 GND (power)
part E pins: 22 NC, 37 NC, 83 NC, 98 NC, 143 NC, 158 NC, 195 NC, 204 NC, 219 NC

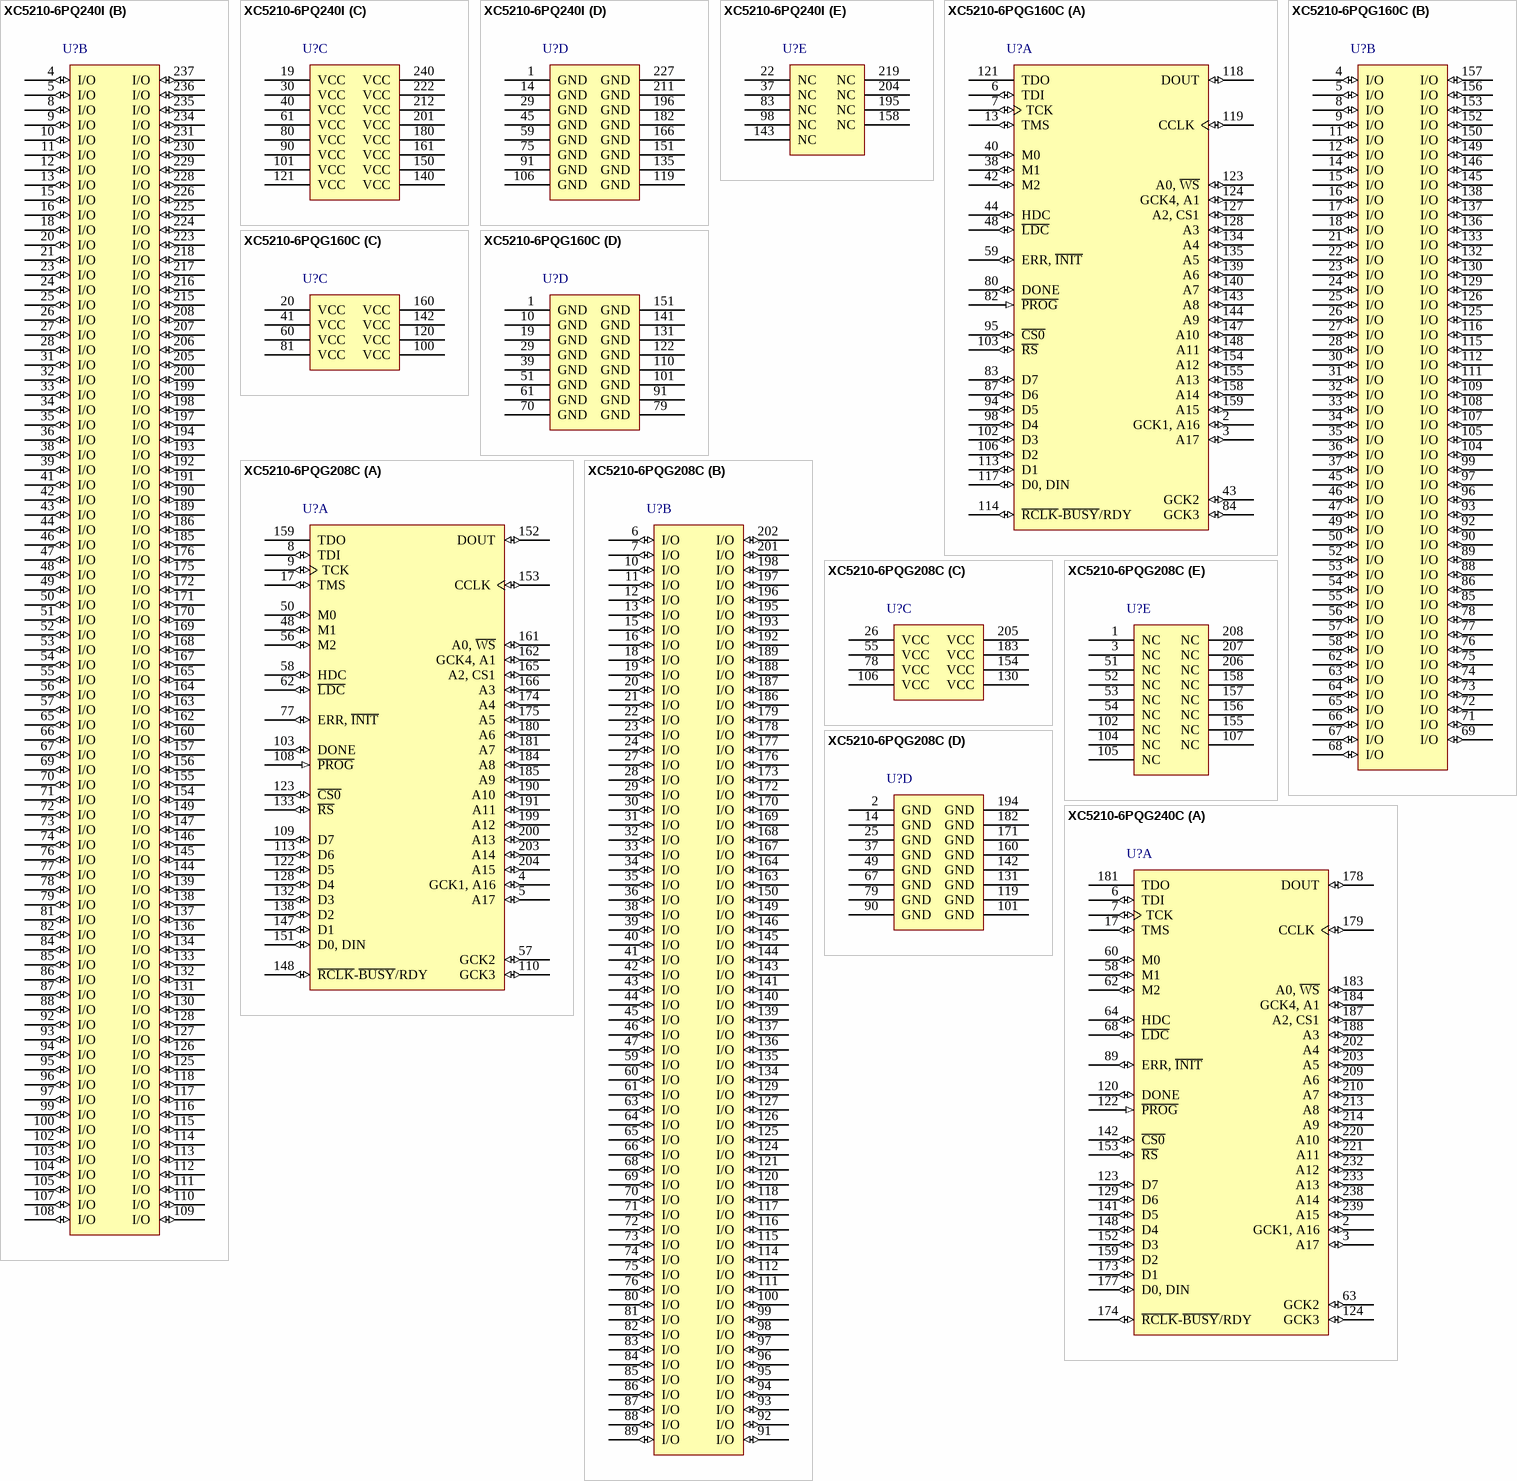
[diagram p47: symbols XC5210-6PQ240I to XC5210-6PQG240C]